# EAGLE library part ATMEGA*-DIP (library ATMEGA_-DIP)
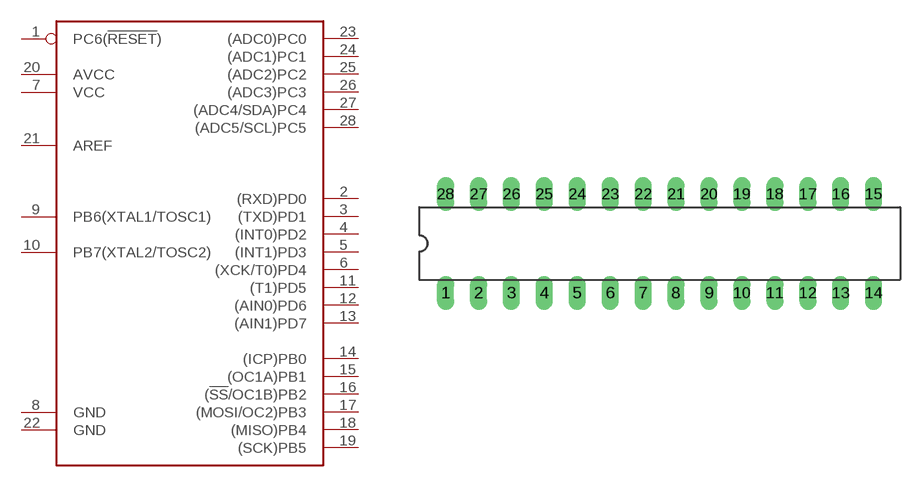
[diagram p0: symbol with the pads of DIL28-SLIM; footprint DIL28-SLIM]

Designator prefix IC

## ATMEGA168A-DIP, ATMEGA168PA-DIP, ATMEGA328-DIP, ATMEGA328P-DIP, ATMEGA48A-DIP, ATMEGA88A-DIP, ATMEGA88PA-DIP  [DIL28-SLIM]
1  PC6(!RESET!)
2  (RXD)PD0
3  (TXD)PD1
4  (INT0)PD2
5  (INT1)PD3
6  (XCK/T0)PD4
7  VCC  pwr
8  GND  pwr
9  PB6(XTAL1/TOSC1)
10  PB7(XTAL2/TOSC2)
11  (T1)PD5
12  (AIN0)PD6
13  (AIN1)PD7
14  (ICP)PB0
15  (OC1A)PB1
16  (!SS!/OC1B)PB2
17  (MOSI/OC2)PB3
18  (MISO)PB4
19  (SCK)PB5
20  AVCC  pwr
21  AREF  pas
22  GND  pwr
23  (ADC0)PC0
24  (ADC1)PC1
25  (ADC2)PC2
26  (ADC3)PC3
27  (ADC4/SDA)PC4
28  (ADC5/SCL)PC5

## Footprint DIL28-SLIM (pad centres in mm)
drill 0.813 long: 1 -16.51,-3.81; 2 -13.97,-3.81; 3 -11.43,-3.81; 4 -8.89,-3.81; 5 -6.35,-3.81; 6 -3.81,-3.81; 7 -1.27,-3.81; 8 1.27,-3.81; 9 3.81,-3.81; 10 6.35,-3.81; 11 8.89,-3.81; 12 11.43,-3.81; 13 13.97,-3.81; 14 16.51,-3.81; 15 16.51,3.81; 16 13.97,3.81; 17 11.43,3.81; 18 8.89,3.81; 19 6.35,3.81; 20 3.81,3.81; 21 1.27,3.81; 22 -1.27,3.81; 23 -3.81,3.81; 24 -6.35,3.81; 25 -8.89,3.81; 26 -11.43,3.81; 27 -13.97,3.81; 28 -16.51,3.81